# Altium integrated library ICs - Miscellaneous ICs.IntLib: 2 symbols
Pins are listed as number, name and electrical type; pins without a type are passive.

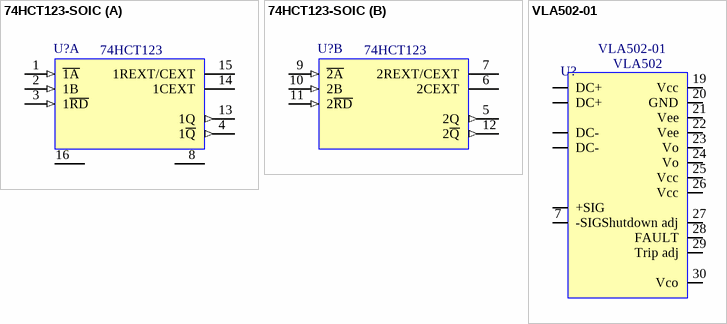
[diagram p0: symbols 74HCT123-SOIC to VLA502-01]

## 74HCT123-SOIC
designator U?, comment 74HCT123
Retriggerable monostable multivibrator with reset.  2 Element; Manufacturer: NXP Semiconductors; Supply Voltage: 4.5V~5.5V; Logic Level (Low): 0.8V (Max); Logic Level (High): 2.0V (Min); Max Propagation Delay: 77nS; Output Current (High/Low): 4mA/4mA; Logic Type: Monostable Multivibrator; Package Description: SOIC, 16-Leads, Body 9.90x3.90mm, Pitch 1.27mm, IPC Low Density; Package Type: SOIC-16; Supplier 1: Newark; Supplier Part Number 1: 71R1230; Supplier 2: Digi-Key; Supplier Part Number 2: 568-9983-6-ND; Supplier 3: Mouser; Supplier Part Number 3: 771-74HCT123D-T; Part Number: 74HCT123
footprint SOIC-16
part A pins: 1 ~{1A} (in), 2 1B (in), 3 1~{RD} (in), 4 1~{Q} (out), 8 GND (power), 13 1Q (out), 14 1CEXT, 15 1REXT/CEXT, 16 VCC (power)
part B pins: 5 2Q (out), 6 2CEXT, 7 2REXT/CEXT, 9 ~{2A} (in), 10 2B (in), 11 2~{RD} (in), 12 2~{Q} (out)

## VLA502-01
designator U?  PackageReference: VLA502  (hidden comment: VLA502-01)
Hybrid IC, DC-DC Converter, IGBT Driver; Manufacturer: Powerex Inc; Configuration: Low-Side; Current - Peak: 12A; Input Type: Non-Inverting; Delay time: 400nS; Supply Voltage: 14.2V to 15.8V; PackageDescription: VLA 502 series SIP IGBT driver module package; Supplier 1: Newark; Supplier Part Number 1: 43J1091; Supplier 2: Digi-Key; Supplier Part Number 2: 835-1064-ND; Part Number: VLA502-01
footprint VLA502 (VLA 502 series SIP IGBT driver module package)
pins: 1 DC+ (power), 2 DC+ (power), 3 DC- (power), 4 DC- (power), 6 +SIG, 7 -SIG, 19 Vcc (power), 20 GND, 21 Vee, 22 Vee, 23 Vo, 24 Vo, 25 Vcc, 26 Vcc, 27 Shutdown adj, 28 FAULT, 29 Trip adj, 30 Vco